# Altium footprint library Conn_JST_S5B-PH-K-S_LF_SN_eec_0.PcbLib: 1 footprints
Each footprint in its own frame and in the unit in brackets; x right, y up, seen from the top. Pads: shape width x height; smd on the part's side, far side on the other; paste and mask are expansions set on the pad; w line width, h text height; cw(c..) or ccw(c..) is an arc to the next point about the centre after c.
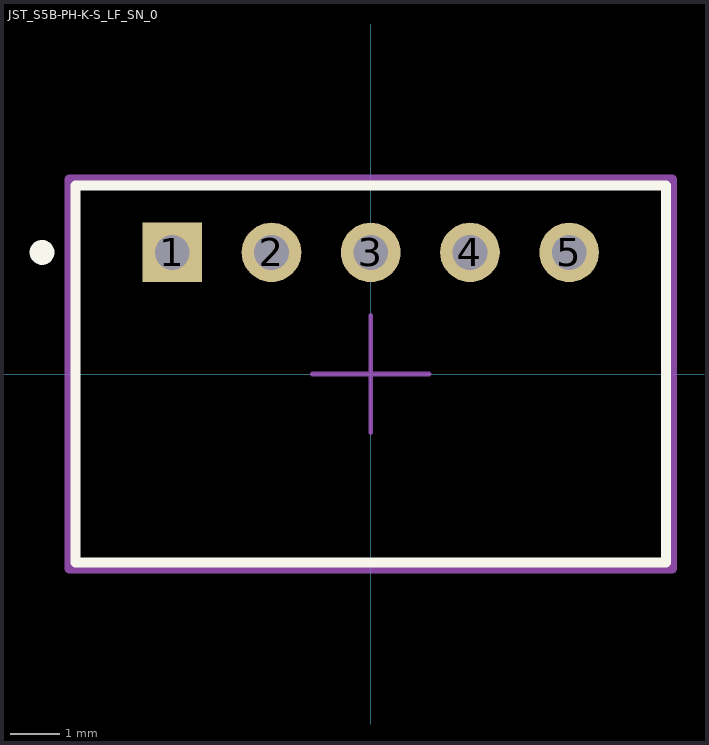
[diagram p0: the footprint, top view; thin cyan lines are the x and y axes]

## JST_S5B-PH-K-S_LF_SN_0 [mm]
pads (5):
  rect 1.2x1.2 hole 0.7 paste-1000 mask+0: 1(-4,2.45)
  round 1.2 hole 0.7 paste-1000 mask+0: 2(-2,2.45) 3(0,2.45) 4(2,2.45) 5(4,2.45)
Top Overlay:
  circle w0.25: c-6.625,2.45 r0.125
  lines w0.2: -5.95,-3.8 5.95,-3.8 5.95,3.8 -5.95,3.8 -5.95,-3.8
Mechanical 10:
  lines w0.2: -6.075,-3.925 6.075,-3.925 6.075,3.925 -6.075,3.925 -6.075,-3.925
  text ".Designator" at 0,0 h1
Mechanical 12:
  lines w0.15: -5.95,-3.8 5.95,-3.8 5.95,3.8 -5.95,3.8 -5.95,-3.8
Mechanical 15:
  lines w0.1: -1.178,0 1.178,0 ; 0,-1.178 0,1.178
  lines w0.2: -6.075,-3.925 6.075,-3.925 6.075,3.925 -6.075,3.925 -6.075,-3.925
3D body "3dmodel.step": height 0.25, standoff 0, extent -6.075,-3.925 6.075,3.925